# Altium schematic symbol library DA1_Project.SCHLIB: 1 symbol
Pins are listed as number, name and electrical type; pins without a type are passive.

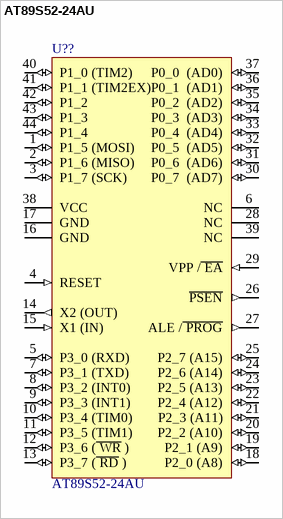
[diagram p0: symbol AT89S52-24AU]

## AT89S52-24AU
designator U??
Atmel 8 Bit Micro 4.0-5.5V 24MHz -40 to +80 Deg C 44TQFP (44A) Package GREEN OPTION; GREEN OPTION: YES; Vendor: ATMEL; PartNr: AT89S52-24AU; Package: 44A 44-lead, Thin Plastic Gull Wing Quad Flatpack (TQFP)
footprint TQFP44 (12x12mm)
pins: 1 P1_5 (MOSI) (io) "PORT 1 BIT 5 OR MOSI", 2 P1_6 (MISO) (io) "PORT 1 BIT 6 OR MISO", 3 P1_7 (SCK) (io) "PORT 1 BIT 7 OR SCK", 4 RESET (in) "RESET IN", 5 P3_0 (RXD) (io) "PORT 3 BIT 0 OR RXD", 6 NC "NOT CONNECTED", 7 P3_1 (TXD) (io) "PORT 3 BIT 1 OR TXD", 8 P3_2 (INT0) (io) "PORT 3 BIT 2 OR INT0", 9 P3_3 (INT1) (io) "PORT 3 BIT 3 OR INT1", 10 P3_4 (TIM0) (io) "PORT 3 BIT 4 OR TIM0", 11 P3_5 (TIM1) (io) "PORT 3 BIT 5 OR TIM1", 12 P3_6 (~{ WR} ) (io) "PORT 3 BIT 6 OR /WR", 13 P3_7 (~{ RD} ) (io) "PORT 3 BIT 7 OR /RD", 14 X2 (OUT) (out) "CLCOK OSC OUT", 15 X1 (IN) (in) "XTAL 1 OR CLK INPUT", 16 GND (power) "GND POWER", 17 GND (power) "GND POWER", 18 P2_0 (A8) (io) "PORT 2 BIT 0 OR A8", 19 P2_1 (A9) (io) "PORT 2 BIT 1 OR A9", 20 P2_2 (A10) (io) "PORT 2 BIT 2 OR A10", 21 P2_3 (A11) (io) "PORT 2 BIT 3 OR A11", 22 P2_4 (A12) (io) "PORT 2 BIT 4 OR A12", 23 P2_5 (A13) (io) "PORT 2 BIT 5 OR A13", 24 P2_6 (A14) (io) "PORT 2 BIT 6 OR A14", 25 P2_7 (A15) (io) "PORT 2 BIT 7 OR A15", 26 ~{PSEN} (out) "PROG STORE ENABLE", 27 ALE /~{ PROG} (out) "ALE / PROG PULSE IN", 28 NC "NOT CONNECTED", 29 VPP /~{ EA} (in) "EX ACCESS ENABLE OR VPP IN", 30 P0_7  (AD7) (io) "PORT 0 BIT 0  (AD7)", 31 P0_6  (AD6) (io) "PORT 0 BIT 0  (AD6)", 32 P0_5  (AD5) (io) "PORT 0 BIT 0  (AD5)", 33 P0_4  (AD4) (io) "PORT 0 BIT 0  (AD4)", 34 P0_3  (AD3) (io) "PORT 0 BIT 0  (AD3)", 35 P0_2  (AD2) (io) "PORT 0 BIT 0  (AD2)", 36 P0_1  (AD1) (io) "PORT 0 BIT 0  (AD1)", 37 P0_0  (AD0) (io) "PORT 0 BIT 0  (AD0)", 38 VCC (power) "VCC 5V NOMINAL", 39 NC "NOT CONNECTED", 40 P1_0 (TIM2) (io) "PORT 1 BIT 0 OR TIM2", 41 P1_1 (TIM2EX) (io) "PORT 1 BIT 1 OR TIM2 EX", 42 P1_2 (io) "PORT 1 BIT 2", 43 P1_3 (io) "PORT 1 BIT 3", 44 P1_4 (io) "PORT 1 BIT 4"